# Altium schematic symbol library ResTraceNT.SchLib: 1 symbol
Pins are listed as number, name and electrical type; pins without a type are passive.

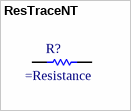
[diagram p0: symbol ResTraceNT]

## ResTraceNT
designator R?  (net tie, no BOM)
Resistor
pins: 1, 2